# EAGLE library part ISO7421 (library counter)
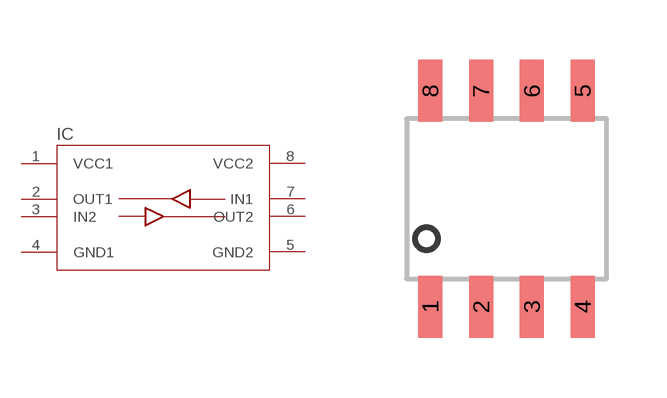
[diagram p5: symbol with the pads of SOIC8; footprint SOIC8]

Designator prefix IC

## ISO7421 (PARTNO: ISO7421MDREP)  [SOIC8]
1  VCC1
2  OUT1
3  IN2
4  GND1
5  GND2
6  OUT2
7  IN1
8  VCC2

## Footprint SOIC8 (pad centres in mm)
smd 0.6 x 1.55: 1 -1.905,-2.7; 2 -0.635,-2.7; 3 0.635,-2.7; 4 1.905,-2.7; 5 1.905,2.7; 6 0.635,2.7; 7 -0.635,2.7; 8 -1.905,2.7